# Altium footprint library Small Outline (~1.27mm Pitch) - 22+ Leads.PcbLib: 50 footprints (part 1 of 4)
Each footprint in its own frame and in the unit in brackets; x right, y up, seen from the top. Pads: shape width x height; smd on the part's side, far side on the other; paste and mask are expansions set on the pad; w line width, h text height; cw(c..) or ccw(c..) is an arc to the next point about the centre after c.
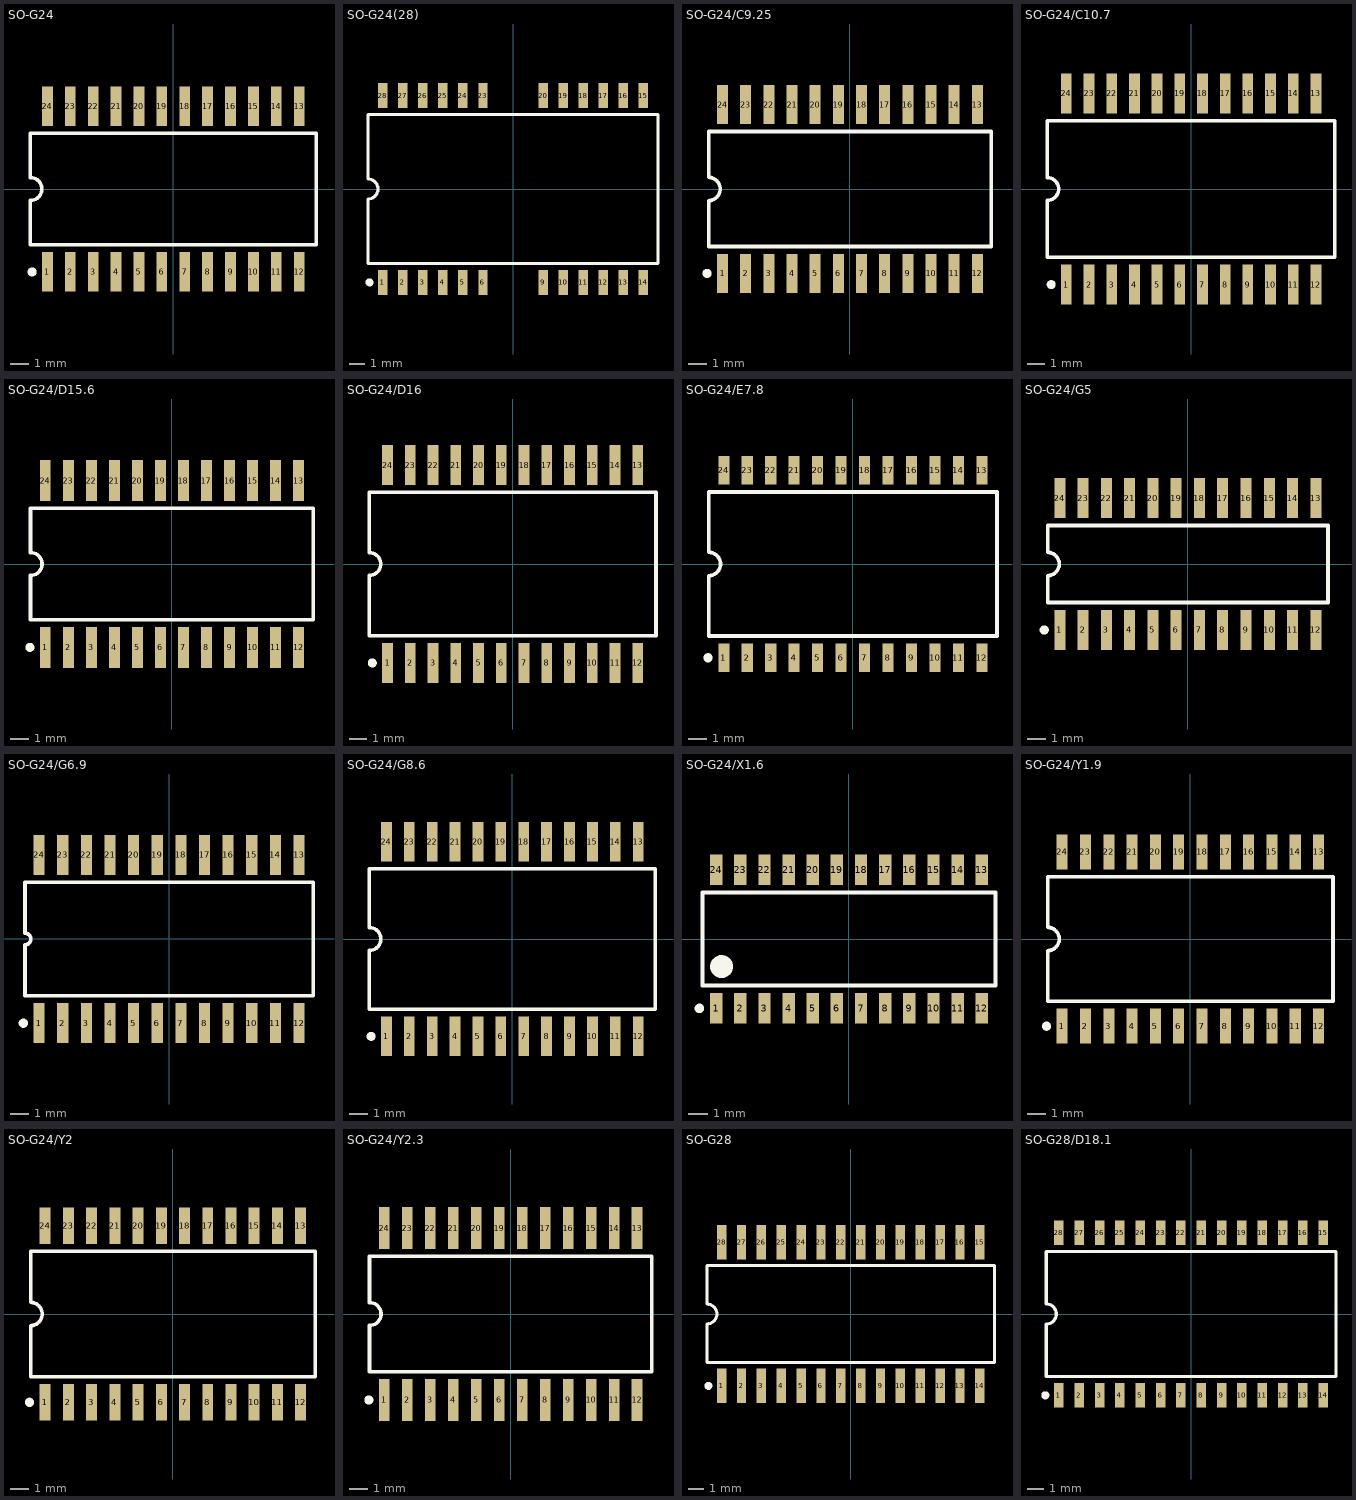
[diagram p0: the footprints below, top view; thin cyan lines are the x and y axes]

## SO-G24 [mm] "Small Outline; 24 Leads; Body Width 7.5 mm; Pitch 1.27 mm"
height 2.65
pads (24):
  rect 0.6x2.2 smd: 1(-6.985,-4.6) 2(-5.715,-4.6) 3(-4.445,-4.6) 4(-3.175,-4.6) 5(-1.905,-4.6) 6(-0.635,-4.6) 7(0.635,-4.6) 8(1.905,-4.6) 9(3.175,-4.6) 10(4.445,-4.6) 11(5.715,-4.6) 12(6.985,-4.6) 13(6.985,4.6) 14(5.715,4.6) 15(4.445,4.6) 16(3.175,4.6) 17(1.905,4.6) 18(0.635,4.6) 19(-0.635,4.6) 20(-1.905,4.6) 21(-3.175,4.6) 22(-4.445,4.6) 23(-5.715,4.6) 24(-6.985,4.6)
Top Overlay:
  circle w0.25: c-7.835,-4.6 r0.125
  lines w0.2: -7.925,-3.1 7.925,-3.1 7.925,3.1 -7.925,3.1 -7.925,0.635 cw(c-7.925,0) -7.925,-0.635 -7.925,-3.1

## SO-G24(28) [mm] "Small Outline; 24 Leads; Body Width 10.16 mm; Pitch 1.27 mm"
height 1.2
pads (24):
  rect 0.6x1.6 smd: 1(-8.255,-5.925) 2(-6.985,-5.925) 3(-5.715,-5.925) 4(-4.445,-5.925) 5(-3.175,-5.925) 6(-1.905,-5.925) 9(1.905,-5.925) 10(3.175,-5.925) 11(4.445,-5.925) 12(5.715,-5.925) 13(6.985,-5.925) 14(8.255,-5.925) 15(8.255,5.925) 16(6.985,5.925) 17(5.715,5.925) 18(4.445,5.925) 19(3.175,5.925) 20(1.905,5.925) 23(-1.905,5.925) 24(-3.175,5.925) 25(-4.445,5.925) 26(-5.715,5.925) 27(-6.985,5.925) 28(-8.255,5.925)
Top Overlay:
  circle w0.25: c-9.105,-5.925 r0.125
  lines w0.2: -9.2,-4.725 -9.2,-0.635 ccw(c-9.2,0) -9.2,0.635 -9.2,4.725 9.2,4.725 9.2,-4.725 -9.2,-4.725

## SO-G24/C9.25 [mm] "Small Outline, Plastic; 24 Leads; Body Width 7.5 mm"
height 2.65
pads (24):
  rect 0.6x2.15 smd: 1(-6.985,-4.625) 2(-5.715,-4.625) 3(-4.445,-4.625) 4(-3.175,-4.625) 5(-1.905,-4.625) 6(-0.635,-4.625) 7(0.635,-4.625) 8(1.905,-4.625) 9(3.175,-4.625) 10(4.445,-4.625) 11(5.715,-4.625) 12(6.985,-4.625) 13(6.985,4.625) 14(5.715,4.625) 15(4.445,4.625) 16(3.175,4.625) 17(1.905,4.625) 18(0.635,4.625) 19(-0.635,4.625) 20(-1.905,4.625) 21(-3.175,4.625) 22(-4.445,4.625) 23(-5.715,4.625) 24(-6.985,4.625)
Top Overlay:
  circle w0.25: c-7.835,-4.625 r0.125
  lines w0.2: -7.75,-3.15 7.75,-3.15 7.75,3.15 -7.75,3.15 -7.75,0.635 cw(c-7.75,0) -7.75,-0.635 -7.75,-3.15

## SO-G24/C10.7 [mm] "Small Outline; 24 Leads; Body Width 8.6 mm; Pitch 1.27 mm"
height 3.05
pads (24):
  rect 0.6x2.25 smd: 1(-6.985,-5.35) 2(-5.715,-5.35) 3(-4.445,-5.35) 4(-3.175,-5.35) 5(-1.905,-5.35) 6(-0.635,-5.35) 7(0.635,-5.35) 8(1.905,-5.35) 9(3.175,-5.35) 10(4.445,-5.35) 11(5.715,-5.35) 12(6.985,-5.35) 13(6.985,5.35) 14(5.715,5.35) 15(4.445,5.35) 16(3.175,5.35) 17(1.905,5.35) 18(0.635,5.35) 19(-0.635,5.35) 20(-1.905,5.35) 21(-3.175,5.35) 22(-4.445,5.35) 23(-5.715,5.35) 24(-6.985,5.35)
Top Overlay:
  circle w0.25: c-7.835,-5.35 r0.125
  lines w0.2: -8.05,-3.825 -8.05,-0.635 ccw(c-8.05,0) -8.05,0.635 -8.05,3.825 8.05,3.825 8.05,-3.825 -8.05,-3.825

## SO-G24/D15.6 [mm] "Small Outline; 24 Leads; Body Width 7.5 mm; Pitch 1.27 mm"
height 2.67
pads (24):
  rect 0.6x2.25 smd: 1(-6.985,-4.6) 2(-5.715,-4.6) 3(-4.445,-4.6) 4(-3.175,-4.6) 5(-1.905,-4.6) 6(-0.635,-4.6) 7(0.635,-4.6) 8(1.905,-4.6) 9(3.175,-4.6) 10(4.445,-4.6) 11(5.715,-4.6) 12(6.985,-4.6) 13(6.985,4.6) 14(5.715,4.6) 15(4.445,4.6) 16(3.175,4.6) 17(1.905,4.6) 18(0.635,4.6) 19(-0.635,4.6) 20(-1.905,4.6) 21(-3.175,4.6) 22(-4.445,4.6) 23(-5.715,4.6) 24(-6.985,4.6)
Top Overlay:
  circle w0.25: c-7.835,-4.6 r0.125
  lines w0.2: -7.8,-3.075 7.8,-3.075 7.8,3.075 -7.8,3.075 -7.8,0.635 cw(c-7.8,0) -7.8,-0.635 -7.8,-3.075

## SO-G24/D16 [mm] "Small Outline; 24 Leads; Body Width 9 mm; Pitch 1.27 mm"
height 2.5
pads (24):
  rect 0.6x2.25 smd: 1(-6.985,-5.525) 2(-5.715,-5.525) 3(-4.445,-5.525) 4(-3.175,-5.525) 5(-1.905,-5.525) 6(-0.635,-5.525) 7(0.635,-5.525) 8(1.905,-5.525) 9(3.175,-5.525) 10(4.445,-5.525) 11(5.715,-5.525) 12(6.985,-5.525) 13(6.985,5.525) 14(5.715,5.525) 15(4.445,5.525) 16(3.175,5.525) 17(1.905,5.525) 18(0.635,5.525) 19(-0.635,5.525) 20(-1.905,5.525) 21(-3.175,5.525) 22(-4.445,5.525) 23(-5.715,5.525) 24(-6.985,5.525)
Top Overlay:
  circle w0.25: c-7.835,-5.525 r0.125
  lines w0.2: -8,-4 8,-4 8,4 -8,4 -8,0.635 cw(c-8,0) -8,-0.635 -8,-4

## SO-G24/E7.8 [mm] "Small Outline; 24 Leads; Body Width 7.5 mm; Pitch 1.27 mm"
height 2.65
pads (24):
  rect 0.6x1.55 smd: 1(-6.985,-5.075) 2(-5.715,-5.075) 3(-4.445,-5.075) 4(-3.175,-5.075) 5(-1.905,-5.075) 6(-0.635,-5.075) 7(0.635,-5.075) 8(1.905,-5.075) 9(3.175,-5.075) 10(4.445,-5.075) 11(5.715,-5.075) 12(6.985,-5.075) 13(6.985,5.075) 14(5.715,5.075) 15(4.445,5.075) 16(3.175,5.075) 17(1.905,5.075) 18(0.635,5.075) 19(-0.635,5.075) 20(-1.905,5.075) 21(-3.175,5.075) 22(-4.445,5.075) 23(-5.715,5.075) 24(-6.985,5.075)
Top Overlay:
  circle w0.25: c-7.835,-5.075 r0.125
  lines w0.2: -7.8,-3.9 -7.8,-0.635 ccw(c-7.8,0) -7.8,0.635 -7.8,3.9 7.8,3.9 7.8,-3.9 -7.8,-3.9

## SO-G24/G5 [mm] "Small Outline; 24 Leads; Body Width 5.3 mm; Pitch 1.27 mm"
height 2
pads (24):
  rect 0.6x2.2 smd: 1(-6.985,-3.6) 2(-5.715,-3.6) 3(-4.445,-3.6) 4(-3.175,-3.6) 5(-1.905,-3.6) 6(-0.635,-3.6) 7(0.635,-3.6) 8(1.905,-3.6) 9(3.175,-3.6) 10(4.445,-3.6) 11(5.715,-3.6) 12(6.985,-3.6) 13(6.985,3.6) 14(5.715,3.6) 15(4.445,3.6) 16(3.175,3.6) 17(1.905,3.6) 18(0.635,3.6) 19(-0.635,3.6) 20(-1.905,3.6) 21(-3.175,3.6) 22(-4.445,3.6) 23(-5.715,3.6) 24(-6.985,3.6)
Top Overlay:
  circle w0.25: c-7.835,-3.6 r0.125
  lines w0.2: -7.65,-2.1 7.65,-2.1 7.65,2.1 -7.65,2.1 -7.65,0.635 cw(c-7.65,0) -7.65,-0.635 -7.65,-2.1

## SO-G24/G6.9 [mm] "24-Lead SOIC (SO24)"
height 2.65
pads (24):
  rect 0.6x2.15 smd: 1(-6.985,-4.525) 2(-5.715,-4.525) 3(-4.445,-4.525) 4(-3.175,-4.525) 5(-1.905,-4.525) 6(-0.635,-4.525) 7(0.635,-4.525) 8(1.905,-4.525) 9(3.175,-4.525) 10(4.445,-4.525) 11(5.715,-4.525) 12(6.985,-4.525) 13(6.985,4.525) 14(5.715,4.525) 15(4.445,4.525) 16(3.175,4.525) 17(1.905,4.525) 18(0.635,4.525) 19(-0.635,4.525) 20(-1.905,4.525) 21(-3.175,4.525) 22(-4.445,4.525) 23(-5.715,4.525) 24(-6.985,4.525)
Top Overlay:
  circle w0.25: c-7.835,-4.525 r0.125
  lines w0.2: -7.75,-3.05 -7.75,-0.318 ccw(c-7.75,0) -7.75,0.318 -7.75,3.05 7.75,3.05 7.75,-3.05 -7.75,-3.05

## SO-G24/G8.6 [mm] "Small Outline; 24 Leads; Body Width 8.9 mm; Pitch 1.27 mm"
height 2.64
pads (24):
  rect 0.6x2.2 smd: 1(-6.985,-5.4) 2(-5.715,-5.4) 3(-4.445,-5.4) 4(-3.175,-5.4) 5(-1.905,-5.4) 6(-0.635,-5.4) 7(0.635,-5.4) 8(1.905,-5.4) 9(3.175,-5.4) 10(4.445,-5.4) 11(5.715,-5.4) 12(6.985,-5.4) 13(6.985,5.4) 14(5.715,5.4) 15(4.445,5.4) 16(3.175,5.4) 17(1.905,5.4) 18(0.635,5.4) 19(-0.635,5.4) 20(-1.905,5.4) 21(-3.175,5.4) 22(-4.445,5.4) 23(-5.715,5.4) 24(-6.985,5.4)
Top Overlay:
  circle w0.25: c-7.835,-5.4 r0.125
  lines w0.2: -7.925,-3.9 7.925,-3.9 7.925,3.9 -7.925,3.9 -7.925,0.635 cw(c-7.925,0) -7.925,-0.635 -7.925,-3.9

## SO-G24/X1.6 [mm] "Small Outline; 24 Leads; Body Width 5.4 mm; Pitch 1.27 mm"
height 2.27
pads (24):
  rect 0.65x1.6 smd: 1(-6.985,-3.65) 2(-5.715,-3.65) 3(-4.445,-3.65) 4(-3.175,-3.65) 5(-1.905,-3.65) 6(-0.635,-3.65) 7(0.635,-3.65) 8(1.905,-3.65) 9(3.175,-3.65) 10(4.445,-3.65) 11(5.715,-3.65) 12(6.985,-3.65) 13(6.985,3.65) 14(5.715,3.65) 15(4.445,3.65) 16(3.175,3.65) 17(1.905,3.65) 18(0.635,3.65) 19(-0.635,3.65) 20(-1.905,3.65) 21(-3.175,3.65) 22(-4.445,3.65) 23(-5.715,3.65) 24(-6.985,3.65)
Top Overlay:
  circle w0.25: c-7.87,-3.65 r0.125
  circle w0.6: c-6.7,-1.45 r0.3
  lines w0.2: -7.7,-2.45 -7.7,-0.635 -7.7,2.45 7.7,2.45 7.7,-2.45 -7.7,-2.45

## SO-G24/Y1.9 [mm] "Small Outline; 24 Leads; Body Width 7.5 mm; Pitch 1.27 mm"
height 2.67
pads (24):
  rect 0.6x1.9 smd: 1(-6.985,-4.75) 2(-5.715,-4.75) 3(-4.445,-4.75) 4(-3.175,-4.75) 5(-1.905,-4.75) 6(-0.635,-4.75) 7(0.635,-4.75) 8(1.905,-4.75) 9(3.175,-4.75) 10(4.445,-4.75) 11(5.715,-4.75) 12(6.985,-4.75) 13(6.985,4.75) 14(5.715,4.75) 15(4.445,4.75) 16(3.175,4.75) 17(1.905,4.75) 18(0.635,4.75) 19(-0.635,4.75) 20(-1.905,4.75) 21(-3.175,4.75) 22(-4.445,4.75) 23(-5.715,4.75) 24(-6.985,4.75)
Top Overlay:
  circle w0.25: c-7.835,-4.75 r0.125
  lines w0.2: -7.775,-3.4 7.775,-3.4 7.775,3.4 -7.775,3.4 -7.775,0.635 cw(c-7.775,0) -7.775,-0.635 -7.775,-3.4

## SO-G24/Y2 [mm] "Small Outline; 24 Leads; Body Width 7.5 mm; Pitch 1.27 mm"
height 2.68
pads (24):
  rect 0.6x2 smd: 1(-6.985,-4.825) 2(-5.715,-4.825) 3(-4.445,-4.825) 4(-3.175,-4.825) 5(-1.905,-4.825) 6(-0.635,-4.825) 7(0.635,-4.825) 8(1.905,-4.825) 9(3.175,-4.825) 10(4.445,-4.825) 11(5.715,-4.825) 12(6.985,-4.825) 13(6.985,4.825) 14(5.715,4.825) 15(4.445,4.825) 16(3.175,4.825) 17(1.905,4.825) 18(0.635,4.825) 19(-0.635,4.825) 20(-1.905,4.825) 21(-3.175,4.825) 22(-4.445,4.825) 23(-5.715,4.825) 24(-6.985,4.825)
Top Overlay:
  circle w0.25: c-7.835,-4.825 r0.125
  lines w0.2: -7.775,-3.425 -7.775,-0.635 ccw(c-7.775,0) -7.775,0.635 -7.775,3.425 7.775,3.425 7.775,-3.425 -7.775,-3.425

## SO-G24/Y2.3 [mm] "Small Outline; 24 Leads; Body Width 7.5 mm; Pitch 1.27 mm"
height 2.65
pads (24):
  rect 0.6x2.3 smd: 1(-6.985,-4.75) 2(-5.715,-4.75) 3(-4.445,-4.75) 4(-3.175,-4.75) 5(-1.905,-4.75) 6(-0.635,-4.75) 7(0.635,-4.75) 8(1.905,-4.75) 9(3.175,-4.75) 10(4.445,-4.75) 11(5.715,-4.75) 12(6.985,-4.75) 13(6.985,4.75) 14(5.715,4.75) 15(4.445,4.75) 16(3.175,4.75) 17(1.905,4.75) 18(0.635,4.75) 19(-0.635,4.75) 20(-1.905,4.75) 21(-3.175,4.75) 22(-4.445,4.75) 23(-5.715,4.75) 24(-6.985,4.75)
Top Overlay:
  circle w0.25: c-7.835,-4.75 r0.125
  lines w0.2: -7.8,-3.2 -7.8,-0.635 ccw(c-7.8,0) -7.8,0.635 -7.8,3.2 7.8,3.2 7.8,-3.2 -7.8,-3.2

## SO-G28 [mm] "Small Outline; 28 Leads; Body Width 7.5 mm; Pitch 1.27 mm"
height 2.65
pads (28):
  rect 0.6x2.2 smd: 1(-8.255,-4.6) 2(-6.985,-4.6) 3(-5.715,-4.6) 4(-4.445,-4.6) 5(-3.175,-4.6) 6(-1.905,-4.6) 7(-0.635,-4.6) 8(0.635,-4.6) 9(1.905,-4.6) 10(3.175,-4.6) 11(4.445,-4.6) 12(5.715,-4.6) 13(6.985,-4.6) 14(8.255,-4.6) 15(8.255,4.6) 16(6.985,4.6) 17(5.715,4.6) 18(4.445,4.6) 19(3.175,4.6) 20(1.905,4.6) 21(0.635,4.6) 22(-0.635,4.6) 23(-1.905,4.6) 24(-3.175,4.6) 25(-4.445,4.6) 26(-5.715,4.6) 27(-6.985,4.6) 28(-8.255,4.6)
Top Overlay:
  circle w0.25: c-9.105,-4.6 r0.125
  lines w0.2: -9.2,-3.1 -9.2,-0.635 ccw(c-9.2,0) -9.2,0.635 -9.2,3.1 9.2,3.1 9.2,-3.1 -9.2,-3.1

## SO-G28/D18.1 [mm] "Small Outline; 28 Leads; Body Width 7.5 mm; Pitch 1.27 mm"
height 2.65
pads (28):
  rect 0.6x1.55 smd: 1(-8.255,-5.075) 2(-6.985,-5.075) 3(-5.715,-5.075) 4(-4.445,-5.075) 5(-3.175,-5.075) 6(-1.905,-5.075) 7(-0.635,-5.075) 8(0.635,-5.075) 9(1.905,-5.075) 10(3.175,-5.075) 11(4.445,-5.075) 12(5.715,-5.075) 13(6.985,-5.075) 14(8.255,-5.075) 15(8.255,5.075) 16(6.985,5.075) 17(5.715,5.075) 18(4.445,5.075) 19(3.175,5.075) 20(1.905,5.075) 21(0.635,5.075) 22(-0.635,5.075) 23(-1.905,5.075) 24(-3.175,5.075) 25(-4.445,5.075) 26(-5.715,5.075) 27(-6.985,5.075) 28(-8.255,5.075)
Top Overlay:
  circle w0.25: c-9.105,-5.075 r0.125
  lines w0.2: -9.05,-3.9 9.05,-3.9 9.05,3.9 -9.05,3.9 -9.05,0.635 cw(c-9.05,0) -9.05,-0.635 -9.05,-3.9